# EAGLE library part X09X2-2S (library connectors)
Connector 2x9 pins, with 2 shield pins
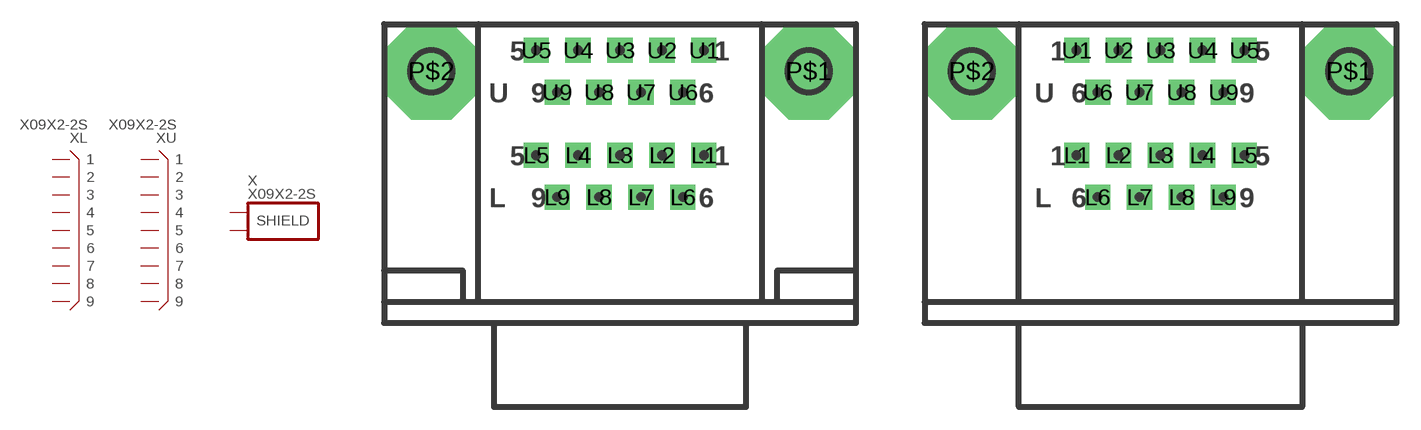
[diagram p73: symbol with the pads of X09X2-DSUBFEMALE1; footprints X09X2-DSUBFEMALE1, X09X2-DSUBMALE1]

Designator prefix X; gates L=X09 U=X09 S=SHIELD2

## X09X2-2S-DFEM  [X09X2-DSUBFEMALE1]
L1  L:1
L2  L:2
L3  L:3
L4  L:4
L5  L:5
L6  L:6
L7  L:7
L8  L:8
L9  L:9
P$1  S:S1
P$2  S:S2
U1  U:1
U2  U:2
U3  U:3
U4  U:4
U5  U:5
U6  U:6
U7  U:7
U8  U:8
U9  U:9

## X09X2-2S-DMAL  [X09X2-DSUBMALE1]
Pads as for X09X2-DSUBFEMALE1

## Footprint X09X2-DSUBFEMALE1 (pad centres in mm)
D-SUB connector 2*9 pins (dual stacked), female American size, with shield soldering pads
drill 0.889 pad 1.651 square: L1 5.5,1.375; L2 2.75,1.375; L3 0,1.375; L4 -2.75,1.375; L5 -5.5,1.375; L6 4.125,-1.375; L7 1.375,-1.375; L8 -1.375,-1.375; L9 -4.125,-1.375; U1 5.5,8.25; U2 2.75,8.25; U3 0,8.25; U4 -2.75,8.25; U5 -5.5,8.25; U6 4.125,5.5; U7 1.375,5.5; U8 -1.375,5.5; U9 -4.125,5.5
drill 3.175 pad 6.35 octagon: P$1 12.375,6.875; P$2 -12.375,6.875

## Footprint X09X2-DSUBMALE1 (pad centres in mm)
D-SUB connector 2*9 pins (dual stacked), male American size, with shield soldering pads
drill 0.889 pad 1.651 square: L1 -5.5,1.375; L2 -2.75,1.375; L3 0,1.375; L4 2.75,1.375; L5 5.5,1.375; L6 -4.125,-1.375; L7 -1.375,-1.375; L8 1.375,-1.375; L9 4.125,-1.375; U1 -5.5,8.25; U2 -2.75,8.25; U3 0,8.25; U4 2.75,8.25; U5 5.5,8.25; U6 -4.125,5.5; U7 -1.375,5.5; U8 1.375,5.5; U9 4.125,5.5
drill 3.175 pad 6.35 octagon: P$1 12.375,6.875; P$2 -12.375,6.875